# Altium footprint library FiveRelay.PcbLib: 1 footprints
Each footprint in its own frame and in the unit in brackets; x right, y up, seen from the top. Pads: shape width x height; smd on the part's side, far side on the other; paste and mask are expansions set on the pad; w line width, h text height; cw(c..) or ccw(c..) is an arc to the next point about the centre after c.
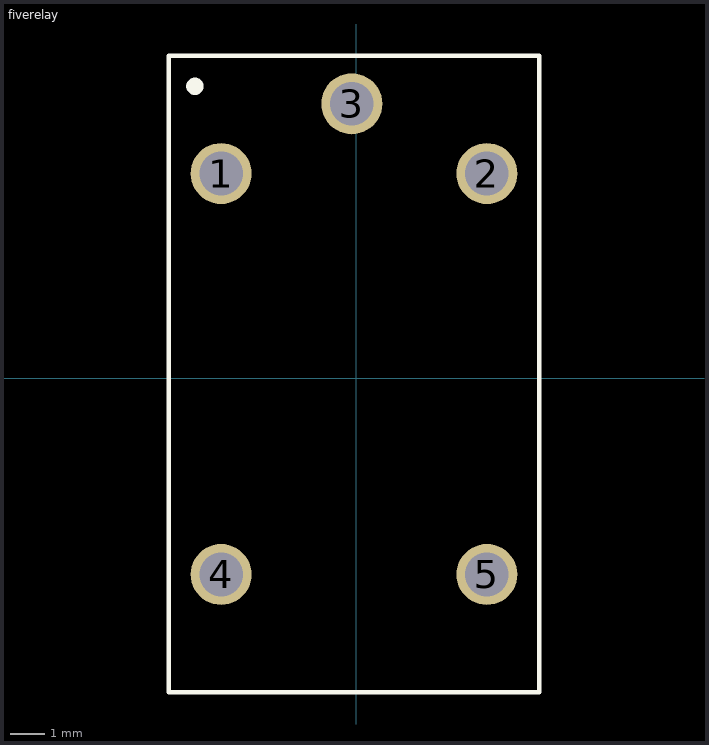
[diagram p0: the footprint, top view; thin cyan lines are the x and y axes]

## fiverelay [mil]
pads (5):
  round 70 hole 50: 1(-155,235) 2(150,235) 3(-5,315) 4(-155,-225) 5(150,-225)
Top Overlay:
  circle w10: c-185,335 r5
  lines w5: -215,-360 -215,370 210,370 210,-360 -215,-360